# Altium schematic symbol library merci.SchLib: 12 symbols
Pins are listed as number, name and electrical type; pins without a type are passive.

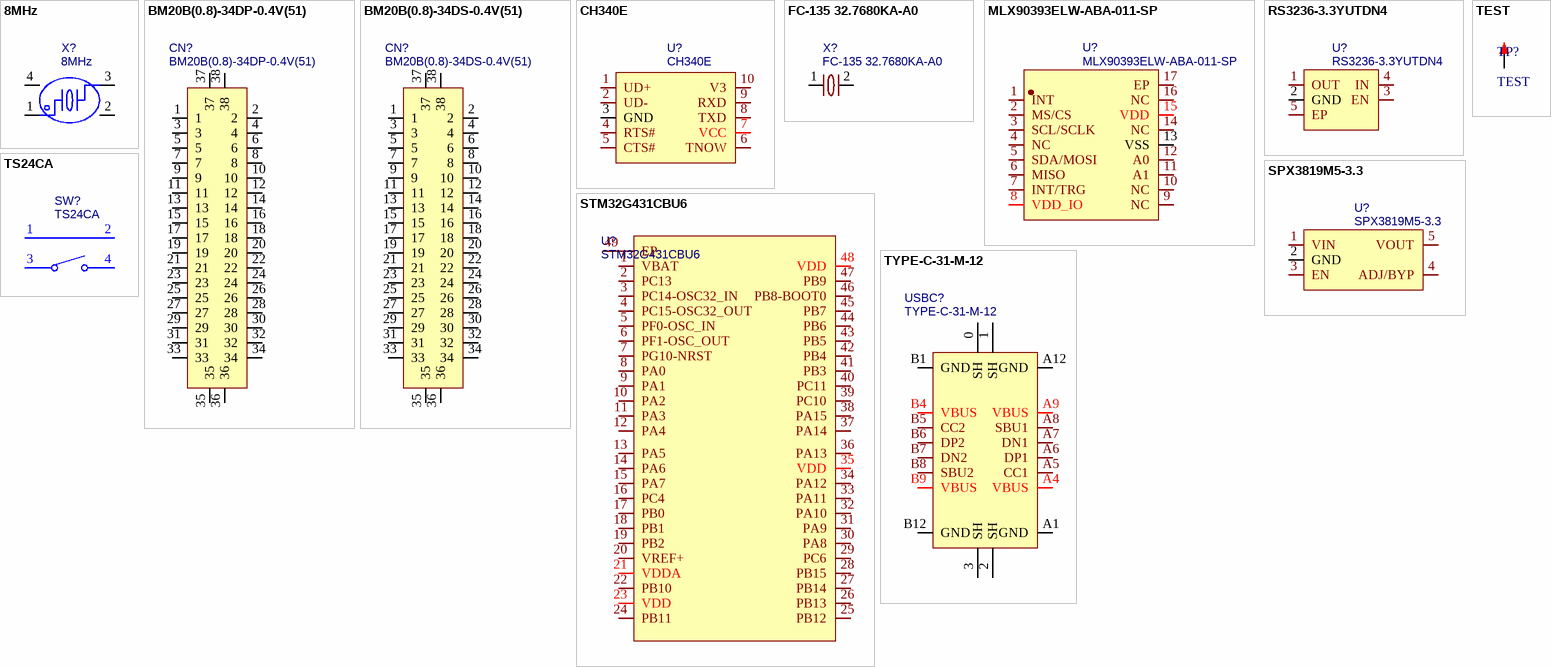
[diagram p0: symbols 8MHz to TYPE-C-31-M-12]

## 8MHz
designator X?
BOM_Manufacturer: JWT(晶威特); BOM_Manufacturer Part: CF4008M00012T8188031; Contributor: LCSC; nameAlias: Frequency; BOM_Supplier: LCSC; BOM_Supplier Part: C2933033; spicePre: X; spiceSymbolName: CF4008M00012T8188031
footprint CRYSTAL-SMD_4P-L3.2-W2.5-BL
pins: 1, 2 GND, 3, 4 GND

## BM20B(0.8)-34DP-0.4V(51)
designator CN?
0.4mm BTB连接器-34P 公; BOM_Manufacturer: HRS(广濑); Contributor: LCSC; BOM_Supplier: LCSC; BOM_Supplier Part: C424540; BOM_Manufacturer Part: BM20B(0.8)-34DP-0.4V(51); BOM_JLCPCB Part Class: Extended Part; spicePre: C; spiceSymbolName: BM20B(0.8)-34DP-0.4V(51)
footprint CONN-SMD_34P-P0.40_BM20B-0.8-34DP-0.4V-51
pins: 1, 2, 3, 4, 5, 6, 7, 8, 9, 10, 11, 12, 13, 14, 15, 16, 17, 18, 19, 20, 21, 22, 23, 24, 25, 26, 27, 28, 29, 30, 31, 32, 33, 34, 35, 36, 37, 38

## BM20B(0.8)-34DS-0.4V(51)
designator CN?
0.4mm BTB连接器-34P 母; BOM_Manufacturer: HRS(广濑); Contributor: LCSC; BOM_Supplier: LCSC; BOM_Supplier Part: C424541; BOM_Manufacturer Part: BM20B(0.8)-34DS-0.4V(51); BOM_JLCPCB Part Class: Extended Part; spicePre: C; spiceSymbolName: BM20B(0.8)-34DS-0.4V(51)
footprint CONN-SMD_34P-P0.40_BM20B-0.8-34DS-0.4V-51
pins: 1, 2, 3, 4, 5, 6, 7, 8, 9, 10, 11, 12, 13, 14, 15, 16, 17, 18, 19, 20, 21, 22, 23, 24, 25, 26, 27, 28, 29, 30, 31, 32, 33, 34, 35, 36, 37, 38

## CH340E
designator U?
ttl-usb; BOM_Manufacturer: WCH(南京沁恒); BOM_Supplier: LCSC; BOM_Manufacturer Part: CH340E; BOM_Supplier Part: C99652; BOM_JLCPCB Part Class: Extended Part; spicePre: U; spiceSymbolName: CH340E
footprint MSOP-10_L3.0-W3.0-P0.50-LS5.0-BL
pins: 1 UD+, 2 UD-, 3 GND, 4 RTS#, 5 CTS#, 6 TNOW, 7 VCC, 8 TXD, 9 RXD, 10 V3

## FC-135 32.7680KA-A0
designator X?
32.768k晶振; BOM_Manufacturer: EPSON(爱普生); Contributor: lcsc; BOM_Supplier: LCSC; BOM_Supplier Part: C2650444; BOM_Manufacturer Part: FC-135 32.7680KA-A0; link: https://atta.szlcsc.com/upload/public/pdf/source/20211127/C2650444_3DEB46927A758E75F8CF3F6FA0A6BD9B.pdf; spicePre: X; spiceSymbolName: FC-135 32.7680KA-A0
footprint CRYSTAL-SMD_L3.2-W1.5-FC-135R32.7680KF-A3
pins: 1, 2 GND

## MLX90393ELW-ABA-011-SP
designator U?
mems磁场传感器; BOM_Manufacturer: Melexis(比利时迈来芯); Contributor: LCSC; BOM_Supplier: LCSC; BOM_Supplier Part: C1526586; BOM_Manufacturer Part: MLX90393ELW-ABA-011-SP; BOM_JLCPCB Part Class: Extended Part; spicePre: U; spiceSymbolName: MLX90393ELW-ABA-011-SP
footprint QFN-16_L3.0-W3.0-P0.50-TR-EP1.7
pins: 1 INT, 2 MS/CS, 3 SCL/SCLK, 4 NC, 5 SDA/MOSI, 6 MISO, 7 INT/TRG, 8 VDD_IO, 9 NC, 10 NC, 11 A1, 12 A0, 13 VSS, 14 NC, 15 VDD, 16 NC, 17 EP

## RS3236-3.3YUTDN4
designator U?
Vin=7.5V Vout=3.3V 500mA LDO; BOM_Manufacturer: RUNIC(润石); Contributor: LCSC; BOM_Supplier: LCSC; BOM_Supplier Part: C379350; BOM_Manufacturer Part: RS3236-3.3YUTDN4; BOM_JLCPCB Part Class: Extended Part; spicePre: U; spiceSymbolName: RS3236-3.3YUTDN4
footprint XDFN-4_L1.0-W1.0-P0.65-BL-EP
pins: 1 OUT, 2 GND, 3 EN, 4 IN, 5 EP

## SPX3819M5-3.3
designator U?
Vin=16V Vout=3.3V 500mA LDO; BOM_Manufacturer: null; Contributor: lcsc; BOM_Supplier: LCSC; BOM_Supplier Part: C9900018941; BOM_Manufacturer Part: SPX3819M5-3.3; BOM_JLCPCB Part Class: Extended Part; spicePre: U; spiceSymbolName: SPX3819M5-3.3
footprint SOT-23-5_L2.9-W1.6-P0.95-LS2.8-BL
pins: 1 VIN, 2 GND, 3 EN, 4 ADJ/BYP, 5 VOUT

## STM32G431CBU6
designator U?
BOM_Manufacturer: ST(意法半导体); Contributor: LCSC; BOM_Supplier: LCSC; BOM_Supplier Part: C529356; BOM_Manufacturer Part: STM32G431CBU6; BOM_JLCPCB Part Class: Extended Part; spicePre: U; spiceSymbolName: STM32G431CBU6
footprint UFQFPN-48_L7.0-W7.0-P0.50-BL-EP
pins: 1 VBAT, 2 PC13, 3 PC14-OSC32_IN, 4 PC15-OSC32_OUT, 5 PF0-OSC_IN, 6 PF1-OSC_OUT, 7 PG10-NRST, 8 PA0, 9 PA1, 10 PA2, 11 PA3, 12 PA4, 13 PA5, 14 PA6, 15 PA7, 16 PC4, 17 PB0, 18 PB1, 19 PB2, 20 VREF+, 21 VDDA, 22 PB10, 23 VDD, 24 PB11, 25 PB12, 26 PB13, 27 PB14, 28 PB15, 29 PC6, 30 PA8, 31 PA9, 32 PA10, 33 PA11, 34 PA12, 35 VDD, 36 PA13, 37 PA14, 38 PA15, 39 PC10, 40 PC11, 41 PB3, 42 PB4, 43 PB5, 44 PB6, 45 PB7, 46 PB8-BOOT0, 47 PB9, 48 VDD, 49 EP

## TEST
designator TP?
测试点; 版权归属: 源创客; BOM名称: 测试点; 学习资源: www.ooocke.com
footprint TEST 1 (测试点1mm)
footprint TEST 1.6 (测试点1.6mm)
footprint TEST 1.4 (测试点1.4mm)
footprint TEST 1.8 (测试点1.8mm)
footprint TEST 1.2 (测试点1.2mm)
footprint TEST 0.8 (测试点0.8mm)
footprint TEST 2.0 (测试点2.0mm)
footprint TEST 2.2 (测试点2.2mm)
footprint TEST 2.4 (测试点2.4mm)
footprint TEST 2.6 (测试点2.6mm)
pins: 1

## TS24CA
designator SW?
按键; BOM_Manufacturer: SHOU HAN(首韩); Contributor: LCSC; BOM_Supplier: LCSC; BOM_Supplier Part: C393942; BOM_Manufacturer Part: TS24CA; BOM_JLCPCB Part Class: Extended Part; spicePre: S; spiceSymbolName: TS24CA
footprint SW-SMD_TS24CA
pins: 1, 2, 3, 4

## TYPE-C-31-M-12
designator USBC?
贴片type-c母座; BOM_Manufacturer: 韩国韩荣; Contributor: LCSC; BOM_Supplier: LCSC; BOM_Supplier Part: C165948; BOM_Manufacturer Part: TYPE-C-31-M-12; BOM_JLCPCB Part Class: Extended Part; spicePre: U; spiceSymbolName: TYPE-C-31-M-12
footprint USB-C_SMD-TYPE-C-31-M-12
pins: 0 SH, 1 SH, 2 SH, 3 SH, A1 GND, A4 VBUS, A5 CC1, A6 DP1, A7 DN1, A8 SBU1, A9 VBUS, A12 GND, B1 GND, B4 VBUS, B5 CC2, B6 DP2, B7 DN2, B8 SBU2, B9 VBUS, B12 GND